# Altium schematic symbol library 172648-0102.Schlib: 1 symbol
Pins are listed as number, name and electrical type; pins without a type are passive.

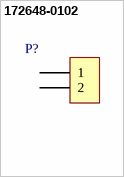
[diagram p0: symbol 172648-0102]

## 172648-0102
designator P?
Molex, Conn Wire to Board HDR 2 POS 4.2mm Solder RA Side Entry
pins: 1, 2